# Altium integrated library 93C46B-I_SN.IntLib: 1 symbol
Pins are listed as number, name and electrical type; pins without a type are passive.

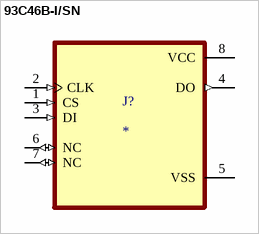
[diagram p0: symbol 93C46B-I/SN]

## 93C46B-I/SN
designator J?
IC EEPROM 1KBIT 2MHZ 8SOIC | Microchip Technology Inc. 93C46B-I/SN; SnapEDA_Link: https://www.snapeda.com/parts/93C46B-I/SN/Microchip/view-part/?ref=snap; Package: SOIC-8 Microchip; Value: *; MF: Microchip; MP: 93C46B-I/SN; Check_prices: https://www.snapeda.com/parts/93C46B-I/SN/Microchip/view-part/?ref=eda
footprint SOIC127P600X175-8N
pins: 1 CS (in), 2 CLK (in), 3 DI (in), 4 DO (out), 5 VSS (power), 6 NC (io), 7 NC (io), 8 VCC (power)